# Altium schematic symbol library Sch74HC595.SchLib: 1 symbol
Pins are listed as number, name and electrical type; pins without a type are passive.

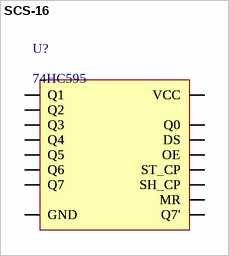
[diagram p0: symbol SCS-16]

## SCS-16
designator U?, comment 74HC595
SN74HC595N - вихідний зсувний регістр 74HC595
footprint PCB_74HC595_Footprint
pins: 0 GND (power), 0 GND (power), 1 Q7, 1 Q7, 2 Q6, 2 Q6, 3 Q5, 3 Q5, 4 Q4, 4 Q4, 5 Q3, 5 Q3, 6 Q2, 6 Q2, 7 Q1, 7 Q1, 8 VCC (power), 8 VCC (power), 9 Q0, 9 Q0, 10 DS, 10 DS, 11 OE, 11 OE, 12 ST_CP, 12 ST_CP, 13 SH_CP, 13 SH_CP, 14 MR, 14 MR, 15 Q7', 15 Q7'